# Altium footprint library CustomFootprints.PcbLib: 32 footprints (part 1 of 2)
Each footprint in its own frame and in the unit in brackets; x right, y up, seen from the top. Pads: shape width x height; smd on the part's side, far side on the other; paste and mask are expansions set on the pad; w line width, h text height; cw(c..) or ccw(c..) is an arc to the next point about the centre after c.
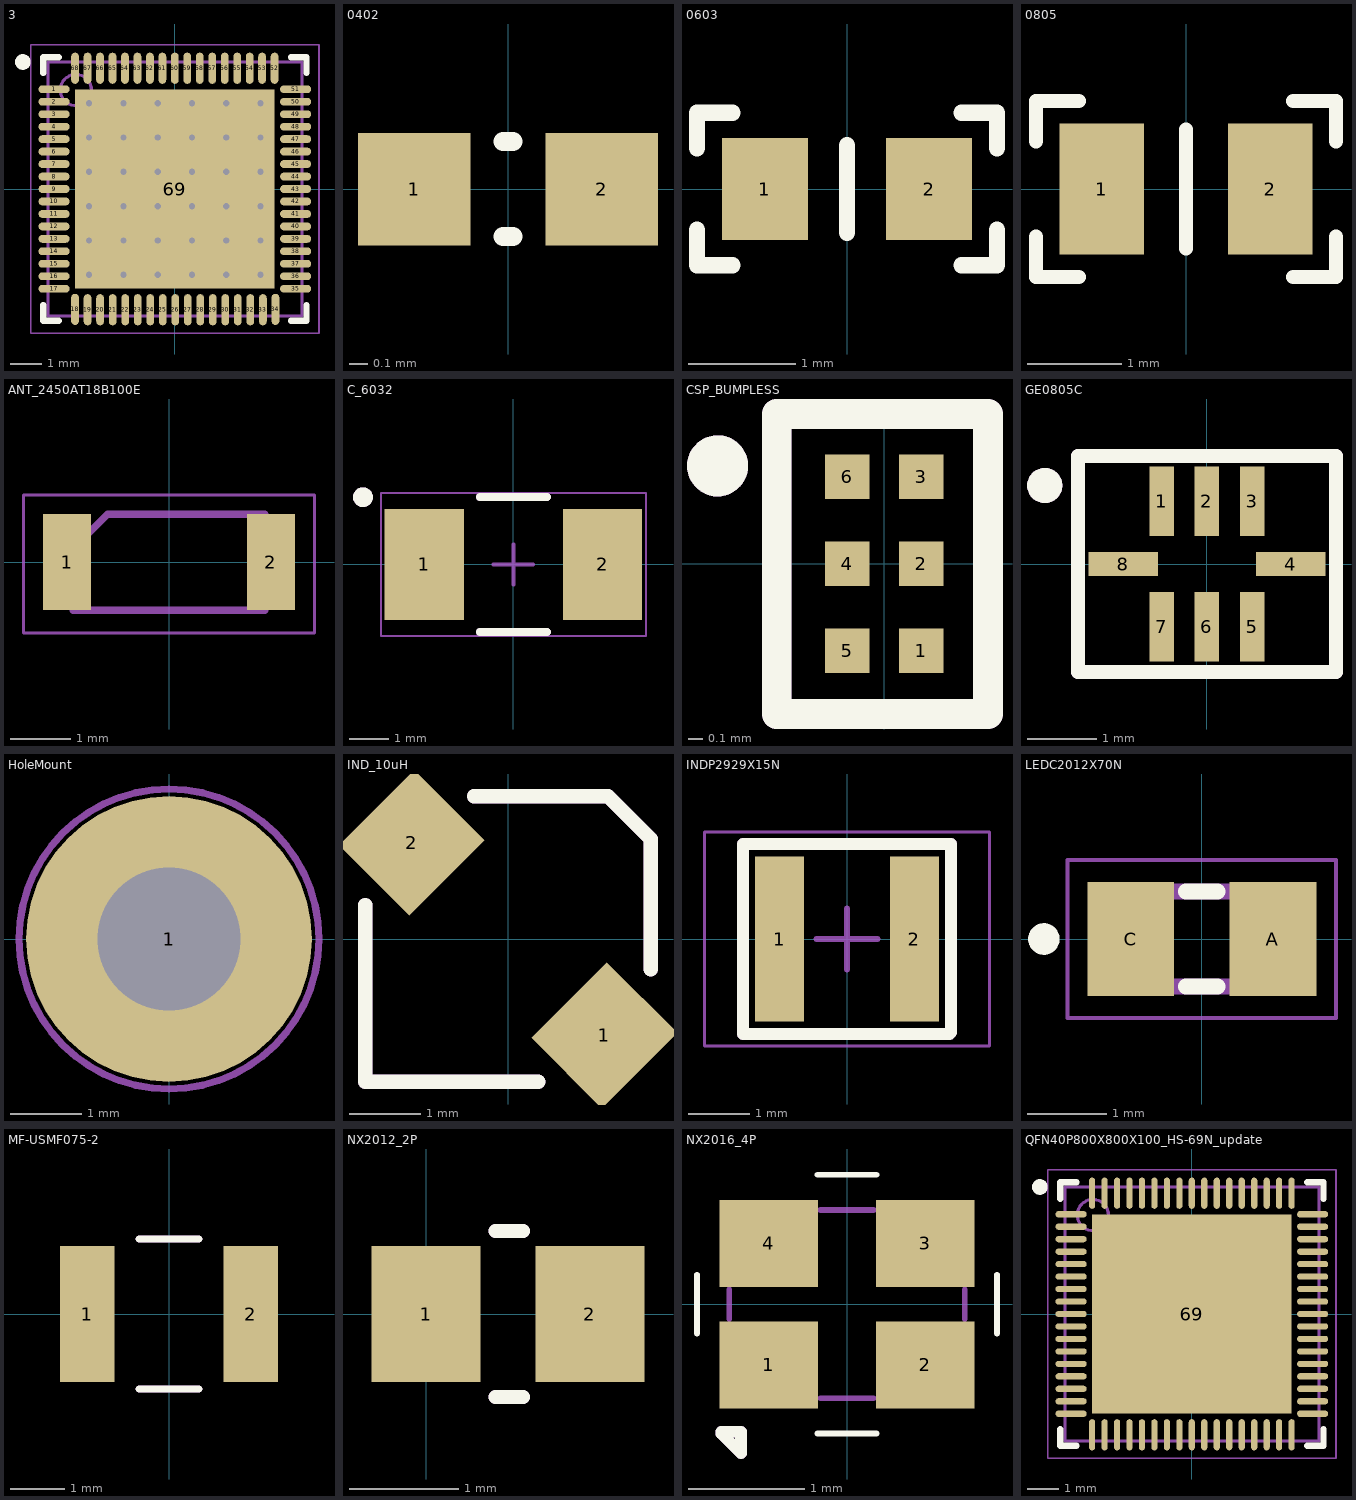
[diagram p0: the footprints below, top view; thin cyan lines are the x and y axes]

## 3 [mm]
height 1
pads (69):
  oval 1x0.25 smd: 1(-3.875,3.2) 2(-3.875,2.8) 3(-3.875,2.4) 4(-3.875,2) 5(-3.875,1.6) 6(-3.875,1.2) 7(-3.875,0.8) 8(-3.875,0.4) 9(-3.875,0) 10(-3.875,-0.4) 11(-3.875,-0.8) 12(-3.875,-1.2) 13(-3.875,-1.6) 14(-3.875,-2) 15(-3.875,-2.4) 16(-3.875,-2.8) 17(-3.875,-3.2) 35(3.875,-3.2) 36(3.875,-2.8) 37(3.875,-2.4) 38(3.875,-2) 39(3.875,-1.6) 40(3.875,-1.2) 41(3.875,-0.8) 42(3.875,-0.4) 43(3.875,0) 44(3.875,0.4) 45(3.875,0.8) 46(3.875,1.2) 47(3.875,1.6) 48(3.875,2) 49(3.875,2.4) 50(3.875,2.8) 51(3.875,3.2)
  oval 0.25x1 smd: 18(-3.2,-3.861) 19(-2.799,-3.875) 20(-2.397,-3.875) 21(-1.995,-3.875) 22(-1.594,-3.875) 23(-1.192,-3.875) 24(-0.791,-3.875) 25(-0.389,-3.875) 26(0.013,-3.875) 27(0.414,-3.875) 28(0.816,-3.875) 29(1.218,-3.875) 30(1.619,-3.875) 31(2.021,-3.875) 32(2.423,-3.875) 33(2.824,-3.875) 34(3.226,-3.861) 52(3.2,3.875) 53(2.8,3.875) 54(2.4,3.875) 55(2,3.875) 56(1.6,3.875) 57(1.2,3.875) 58(0.8,3.875) 59(0.4,3.875) 60(0,3.875) 61(-0.4,3.875) 62(-0.8,3.875) 63(-1.2,3.875) 64(-1.6,3.875) 65(-2,3.875) 66(-2.4,3.875) 67(-2.8,3.875) 68(-3.2,3.875)
  rect 6.4x6.4 smd: 69(0,0)
via 2.75,-2.75 diameter 0.5 hole 0.2
via 1.65,-2.75 diameter 0.5 hole 0.2
via 0.55,-2.75 diameter 0.5 hole 0.2
via -0.55,-2.75 diameter 0.5 hole 0.2
via -1.65,-2.75 diameter 0.5 hole 0.2
via -2.75,-2.75 diameter 0.5 hole 0.2
via 2.75,-1.65 diameter 0.5 hole 0.2
via 1.65,-1.65 diameter 0.5 hole 0.2
via 0.55,-1.65 diameter 0.5 hole 0.2
via -0.55,-1.65 diameter 0.5 hole 0.2
via -1.65,-1.65 diameter 0.5 hole 0.2
via -2.75,-1.65 diameter 0.5 hole 0.2
via 2.75,-0.55 diameter 0.5 hole 0.2
via 1.65,-0.55 diameter 0.5 hole 0.2
via 0.55,-0.55 diameter 0.5 hole 0.2
via -0.55,-0.55 diameter 0.5 hole 0.2
via -1.65,-0.55 diameter 0.5 hole 0.2
via -2.75,-0.55 diameter 0.5 hole 0.2
via 2.75,0.55 diameter 0.5 hole 0.2
via 1.65,0.55 diameter 0.5 hole 0.2
via 0.55,0.55 diameter 0.5 hole 0.2
via -0.55,0.55 diameter 0.5 hole 0.2
via -1.65,0.55 diameter 0.5 hole 0.2
via -2.75,0.55 diameter 0.5 hole 0.2
via 2.75,1.65 diameter 0.5 hole 0.2
via 1.65,1.65 diameter 0.5 hole 0.2
via 0.55,1.65 diameter 0.5 hole 0.2
via -0.55,1.65 diameter 0.5 hole 0.2
via -1.65,1.65 diameter 0.5 hole 0.2
via -2.75,1.65 diameter 0.5 hole 0.2
via 2.75,2.75 diameter 0.5 hole 0.2
via 1.65,2.75 diameter 0.5 hole 0.2
via 0.55,2.75 diameter 0.5 hole 0.2
via -0.55,2.75 diameter 0.5 hole 0.2
via -1.65,2.75 diameter 0.5 hole 0.2
via -2.75,2.75 diameter 0.5 hole 0.2
Top Overlay:
  circle w0.25: c-4.875,4.075 r0.125
  lines w0.2: -4.225,-3.725 -4.225,-4.225 -3.725,-4.225 ; -4.225,3.725 -4.225,4.225 -3.725,4.225 ; 3.725,-4.225 4.225,-4.225 4.225,-3.725 ; 3.725,4.225 4.225,4.225 4.225,3.725
Mechanical 13:
  circle w0.1: c-3.175,3.175 r0.5
  lines w0.1: -4.075,-4.075 4.075,-4.075 4.075,4.075 -4.075,4.075 -4.075,-4.075
Mechanical 15:
  lines w0.05: -4.625,-4.625 4.625,-4.625 4.625,4.625 -4.625,4.625 -4.625,-4.625
  lines w0.1: -0.5,0 0.5,0 ; 0,-0.5 0,0.5
3D body: height 1, standoff 0, extent -4.075,-4.075 4.075,4.075

## 0402 [mm]
pads (2):
  rect 0.6x0.6 smd: 1(-0.5,0) 2(0.5,0)
Top Overlay:
  lines w0.102: -0.025,-0.254 0.025,-0.254 ; -0.025,0.254 0.025,0.254
3D body "CAP_0402_(NOVI).step": height 0.48, standoff -0.02, extent -0.5,-0.25 0.5,0.25

## 0603 [mm]
pads (2):
  rect 0.8x0.95 smd: 1(-0.765,0) 2(0.765,0)
Top Overlay:
  lines w0.152: -1.397,-0.381 -1.397,-0.711 -1.067,-0.711 ; -1.397,0.381 -1.397,0.711 -1.067,0.711 ; 0,-0.406 0,0.406 ; 1.067,-0.711 1.397,-0.711 1.397,-0.381 ; 1.067,0.711 1.397,0.711 1.397,0.381
3D body "res 0603.step": height 0.45, standoff 0, extent -0.8,-0.41 0.8,0.41

## 0805 [mm]
pads (2):
  rect 0.9x1.4 smd: 1(-0.9,0) 2(0.9,0)
Top Overlay:
  lines w0.152: -1.6,-0.508 -1.6,-0.94 -1.143,-0.94 ; -1.6,0.508 -1.6,0.94 -1.143,0.94 ; 0,-0.635 0,0.635 ; 1.143,-0.94 1.6,-0.94 1.6,-0.508 ; 1.143,0.94 1.6,0.94 1.6,0.508
3D body "User Library-CR2012-0805.step": height 0.6, standoff 0, extent -1.003,-0.622 0.997,0.628

## ANT_2450AT18B100E [mm]
pads (2):
  rect 0.8x1.6 smd: 1(-1.7,0) 2(1.7,0)
Mechanical 3:
  lines w0.12: -1.6,-0.8 -1.6,0.225 -1.025,0.8 1.6,0.8 1.6,-0.8 -1.6,-0.8
Mechanical 7:
  lines w0.05: -2.425,-1.18 2.425,-1.18 2.425,1.12 -2.425,1.12 -2.425,-1.18
Assembly drawing:
  lines w0.05: -2.425,-1.18 2.425,-1.18 2.425,1.12 -2.425,1.12 -2.425,-1.18
  text "'.Designator'" at -2.1,-0.267 h0.7
3D body "2450AT18B100E--3DModel-STEP-56544.STEP": height 1.41, standoff 0.01, extent -1.6,-0.8 1.6,0.8

## C_6032 [mm] "Molded Capacitor, 2-Leads, Body 6.20x3.4mm"
height 2.8
pads (2):
  rect 2x2.8 smd: 1(-2.25,0) 2(2.25,0)
Top Overlay:
  circle w0.25: c-3.8,1.7 r0.125
  lines w0.2: -0.85,-1.7 0.85,-1.7 ; -0.85,1.7 0.85,1.7
Mechanical 15:
  lines w0.05: -3.35,-1.8 3.35,-1.8 3.35,1.8 -3.35,1.8 -3.35,-1.8
  lines w0.1: -0.5,0 0.5,0 ; 0,-0.5 0,0.5
Assembly drawing:
  circle w0.25: c-3.8,1.7 r0.125
  lines w0.2: -0.85,-1.7 0.85,-1.7 ; -0.85,1.7 0.85,1.7
  text "'.Designator'" at -3.3,-0.267 h0.7
3D body "CAPMP6032X28L.step": height 2.8, standoff 0, extent -3.32,-1.7 3.32,1.7

## CSP_BUMPLESS [mm]
pads (6):
  rect 0.3x0.3 smd mask+0.102: 1(0.25,-0.587) 2(0.25,0) 3(0.25,0.587) 4(-0.25,0) 5(-0.25,-0.587) 6(-0.25,0.587)
Top Overlay:
  circle w0.254: c-1.125,0.662 r0.079
  lines w0.2: -0.725,-1.013 -0.725,1.012 0.7,1.012 0.7,-1.013 -0.725,-1.013
Assembly drawing:
  circle w0.254: c-1.125,0.662 r0.079
  lines w0.2: -0.725,-1.013 -0.725,1.012 0.7,1.012 0.7,-1.013 -0.725,-1.013
  text "'.Designator'" at -3.5,1.595 h0.7
3D body "User Library-WLCSP-6.step": height 0.34, standoff -0.24, extent -0.49,-0.728 0.49,0.752

## GE0805C [mm]
pads (8):
  rect 0.35x1 smd mask-0.1: 1(-0.65,0.9) 2(0,0.9) 3(0.65,0.9) 5(0.65,-0.9) 6(0,-0.9) 7(-0.65,-0.9)
  rect 1x0.35 smd mask-0.1: 4(1.2,0) 8(-1.2,0)
Top Overlay:
  circle w0.254: c-2.325,1.125 r0.125
  lines w0.2: -1.85,-1.55 1.85,-1.55 1.85,1.55 -1.85,1.55 -1.85,-1.55
Assembly drawing:
  circle w0.254: c-2.325,1.125 r0.125
  lines w0.2: -1.85,-1.55 1.85,-1.55 1.85,1.55 -1.85,1.55 -1.85,-1.55
  text "'.Designator'" at -1.6,-0.367 h0.7
3D body "User Library-GE0805C-2.step": height 0.94, standoff -0.01, extent -1.015,-0.64 1.015,0.64

## HoleMount [mm]
pads (1):
  round 4 hole 2: 1(0,0)
Mechanical 7:
  lines w0.1: -2.1,0 cw(c0,0) 0,2.1 ; -2.1,0 ccw(c0,0) 0,-2.1 ; -2.1,0 ccw(c0,0) 0,-2.1 ; -2.1,0 cw(c0,0) 0,2.1 ; 0,-2.1 ccw(c0,0) 2.1,0 ; 0,-2.1 ccw(c0,0) 2.1,0 ; 0,2.1 cw(c0,0) 2.1,0 ; 0,2.1 cw(c0,0) 2.1,0
3D body: height 0.03, standoff 0, extent -2.105,-2.11 2.103,2.11

## IND_10uH [mm] "CDRH3D16"
pads (2):
  rect 1.5x1.4 smd rot 45: 1(1.35,-1.35) 2(-1.35,1.35)
Top Overlay:
  lines w0.2: -2,0.475 -2,-2 0.425,-2 ; -0.475,2 1.4,2 2,1.4 2,-0.425
Assembly drawing:
  lines w0.2: -2,0.475 -2,-2 0.425,-2 ; -0.475,2 1.4,2 2,1.4 2,-0.425
  text "'.Designator'" at -1.2,-0.6 h1.2
3D body "User Library-CDRH3D16.step": height 1.71, standoff -0.09, extent -1.944,-1.945 1.945,1.945

## INDP2929X15N [mm] "Precision Wire Wound Inductor, 2-Leads, Body 2.90x2.90mm, IPC Medium Density"
height 1.5
pads (2):
  rect 0.8x2.7 smd: 1(-1.1,0) 2(1.1,0)
Top Overlay:
  lines w0.2: 1.675,-1.55 -1.7,-1.55 -1.7,1.55 1.7,1.55 1.7,-1.525
Mechanical 15:
  lines w0.05: -2.325,-1.75 -2.325,1.75 2.325,1.75 2.325,-1.75 -2.325,-1.75
  lines w0.1: -0.5,0 0.5,0 ; 0,-0.5 0,0.5
Assembly drawing:
  lines w0.2: 1.675,-1.55 -1.7,-1.55 -1.7,1.55 1.7,1.55 1.7,-1.525
  text "'.Designator'" at -3.8,2.133 h0.7
3D body "User Library-Murata_LQH3NP_M0(1212).step": height 1.41, standoff 0, extent -1.51,-1.475 1.51,1.525

## LEDC2012X70N [mm]
pads (2):
  rect 1.1x1.45 smd: A(0.9,0) C(-0.9,0)
Top Overlay:
  circle w0.2: c-2,0 r0.1
  lines w0.2: -0.2,-0.6 0.2,-0.6 ; -0.2,0.6 0.2,0.6
Mechanical 13:
  lines w0.2: -1,-0.6 -1,0.6 1,0.6 1,-0.6 -1,-0.6
Mechanical 15:
  lines w0.05: -1.7,-1 -1.7,1 1.7,1 1.7,-1 -1.7,-1

## MF-USMF075-2 [mm]
pads (2):
  rect 1x2.5 smd: 1(-1.5,0) 2(1.5,0)
Top Overlay:
  lines w0.125: -0.55,-1.375 0.55,-1.375 ; -0.55,1.375 0.55,1.375
Assembly drawing:
  lines w0.125: -0.55,-1.375 0.55,-1.375 ; -0.55,1.375 0.55,1.375
  text "'.Designator'" at -3.2,-0.167 h0.7
3D body "FUSSC257X321X85L30.STEP": height 0.86, standoff 0.01, extent -1.608,-1.287 1.607,1.287

## NX2012_2P [mm]
pads (2):
  rect 1x1.25 smd: 1(0,0) 2(1.5,0)
Top Overlay:
  lines w0.127: 0.635,-0.762 0.889,-0.762 ; 0.635,0.762 0.889,0.762
Assembly drawing:
  lines w0.127: 0.635,-0.762 0.889,-0.762 ; 0.635,0.762 0.889,0.762
  text "'.Designator'" at -2.2,-0.267 h0.7
3D body: height 0.75, standoff 0, extent -0.33,-0.762 1.88,0.762

## NX2016_4P [mm]
pads (4):
  rect 0.85x0.75 smd mask+0.05: 1(-0.675,-0.525) 2(0.675,-0.525) 3(0.675,0.525) 4(-0.675,0.525)
Top Overlay:
  lines w0.05: -1.295,-0.254 -1.295,0.254 ; -0.254,-1.118 0.254,-1.118 ; -0.254,1.118 0.254,1.118 ; 1.295,-0.254 1.295,0.254
  lines w0.1: -1.085,-1.118 -0.915,-1.287 -0.915,-1.1 -1.085,-1.1 -1.085,-1.118
Assembly drawing:
  lines w0.05: -1.016,-0.127 -1.016,0.127 ; -0.229,-0.813 0.229,-0.813 ; -0.229,0.813 0.229,0.813 ; 1.016,-0.127 1.016,0.127
  lines w0.1: -1.085,-1.118 -0.915,-1.287 -0.915,-1.1 -1.085,-1.1 -1.085,-1.118
  text "'.Designator'" at -3.4,1.333 h0.7
3D body "NX2016SA(NDK).step": height 0.7, standoff 0, extent -1,-0.8 1,0.8

## QFN40P800X800X100_HS-69N_update [mm] "QFN, 68-Leads, Body 8.00x8.00mm, Pitch 0.40mm, Thermal Pad 6.40x6.40mm, IPC Medium Density"
height 1
pads (69):
  oval 1x0.2 smd: 1(-3.875,3.2) 2(-3.875,2.8) 3(-3.875,2.4) 4(-3.875,2) 5(-3.875,1.6) 6(-3.875,1.2) 7(-3.875,0.8) 8(-3.875,0.4) 9(-3.875,0) 10(-3.875,-0.4) 11(-3.875,-0.8) 12(-3.875,-1.2) 13(-3.875,-1.6) 14(-3.875,-2) 15(-3.875,-2.4) 16(-3.875,-2.8) 17(-3.875,-3.2) 35(3.875,-3.2) 36(3.875,-2.8) 37(3.875,-2.4) 38(3.875,-2) 39(3.875,-1.6) 40(3.875,-1.2) 41(3.875,-0.8) 42(3.875,-0.4) 43(3.875,0) 44(3.875,0.4) 45(3.875,0.8) 46(3.875,1.2) 47(3.875,1.6) 48(3.875,2) 49(3.875,2.4) 50(3.875,2.8) 51(3.875,3.2)
  oval 0.2x1 smd: 18(-3.2,-3.875) 19(-2.8,-3.875) 20(-2.4,-3.875) 21(-2,-3.875) 22(-1.6,-3.875) 23(-1.2,-3.875) 24(-0.8,-3.875) 25(-0.4,-3.875) 26(0,-3.875) 27(0.4,-3.875) 28(0.8,-3.875) 29(1.2,-3.875) 30(1.6,-3.875) 31(2,-3.875) 32(2.4,-3.875) 33(2.8,-3.875) 34(3.2,-3.875) 52(3.2,3.875) 53(2.8,3.875) 54(2.4,3.875) 55(2,3.875) 56(1.6,3.875) 57(1.2,3.875) 58(0.8,3.875) 59(0.4,3.875) 60(0,3.875) 61(-0.4,3.875) 62(-0.8,3.875) 63(-1.2,3.875) 64(-1.6,3.875) 65(-2,3.875) 66(-2.4,3.875) 67(-2.8,3.875) 68(-3.2,3.875)
  rect 6.4x6.4 smd: 69(0,0)
Top Overlay:
  circle w0.25: c-4.875,4.075 r0.125
  lines w0.2: -4.225,-3.7 -4.225,-4.225 -3.7,-4.225 ; -4.225,3.7 -4.225,4.225 -3.7,4.225 ; 3.7,-4.225 4.225,-4.225 4.225,-3.7 ; 3.7,4.225 4.225,4.225 4.225,3.7
Mechanical 13:
  circle w0.1: c-3.175,3.175 r0.5
  lines w0.1: -4.075,-4.075 4.075,-4.075 4.075,4.075 -4.075,4.075 -4.075,-4.075
Mechanical 15:
  lines w0.05: -4.625,-4.625 4.625,-4.625 4.625,4.625 -4.625,4.625 -4.625,-4.625
  lines w0.1: -0.5,0 0.5,0 ; 0,-0.5 0,0.5
3D body "QFN40P800X800X100_HS-69N_update.step": height 1, standoff 0, extent -4.076,-4.076 4.076,4.076